# Altium footprint library SOT_363_DiodesInc.PcbLib: 1 footprints
Each footprint in its own frame and in the unit in brackets; x right, y up, seen from the top. Pads: shape width x height; smd on the part's side, far side on the other; paste and mask are expansions set on the pad; w line width, h text height; cw(c..) or ccw(c..) is an arc to the next point about the centre after c.
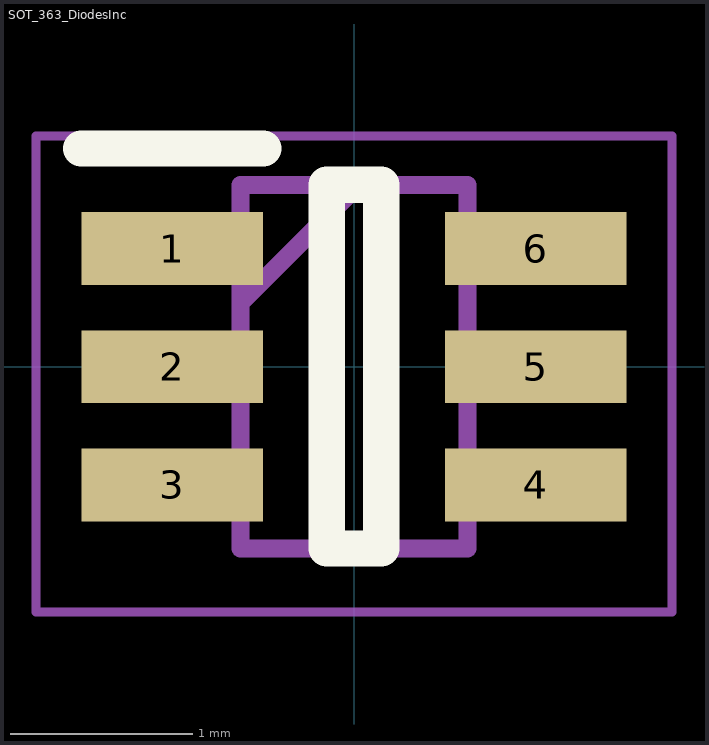
[diagram p0: the footprint, top view; thin cyan lines are the x and y axes]

## SOT_363_DiodesInc [mm]
pads (6):
  rect 1x0.4 smd: 1(-1,0.65) 2(-1,0) 3(-1,-0.65) 4(1,-0.65) 5(1,0) 6(1,0.65)
Top Overlay:
  lines w0.2: -1.5,1.2 -0.5,1.2 ; -0.15,-1 0.15,-1 0.15,1 -0.15,1 -0.15,-1
Top 3D Body:
  lines w0.1: -0.625,0.35 0.025,1 ; -0.625,-1 0.625,-1 0.625,1 -0.625,1 -0.625,-1
Top Courtyard:
  lines w0.05: -1.75,-1.35 1.75,-1.35 1.75,1.27 -1.75,1.27 -1.75,-1.35
3D body "DMN53D0LDW-13.stp": height 1.1, standoff 0, extent -1.05,-1 1.05,1